# Altium footprint library Diode_SMD.PcbLib: 100 footprints (part 7 of 7)
Each footprint in its own frame and in the unit in brackets; x right, y up, seen from the top. Pads: shape width x height; smd on the part's side, far side on the other; paste and mask are expansions set on the pad; w line width, h text height; cw(c..) or ccw(c..) is an arc to the next point about the centre after c.
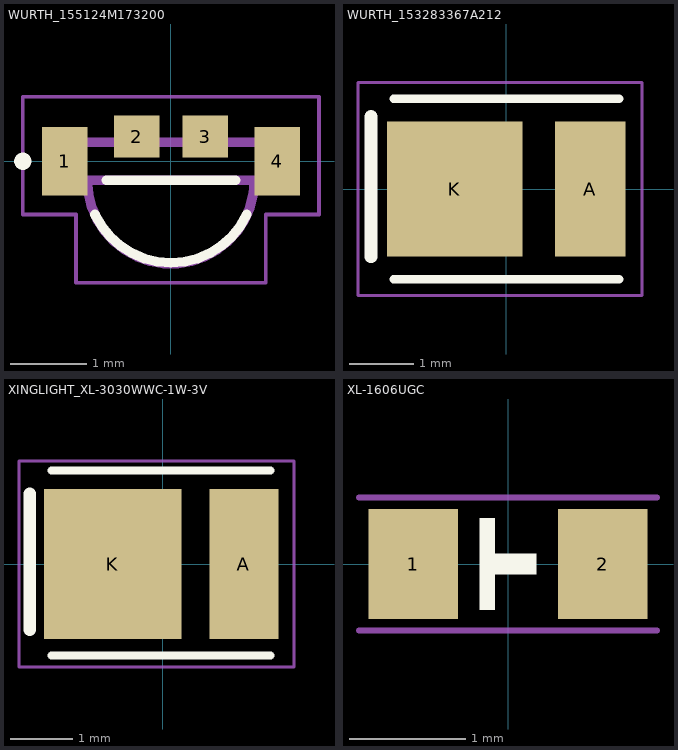
[diagram p6: the footprints below, top view; thin cyan lines are the x and y axes]

## WURTH_155124M173200 [mm] "LED RGB CLEAR 1204 SMD R/A"
pads (4):
  rect 0.6x0.9 smd: 1(-1.4,0) 4(1.4,0)
  rect 0.6x0.55 smd: 2(-0.45,0.325) 3(0.45,0.325)
Top Overlay:
  circle w0.127: c-1.95,0 r0.05
  lines w0.127: -1,-0.7 ccw(c0,-0.234) 1,-0.7 ; -0.85,-0.25 0.85,-0.25
Mechanical 13:
  lines w0.127: -1.1,-0.25 ccw(c0,-0.25) 1.1,-0.25 ; -1.1,-0.25 1.1,-0.25 ; -1.1,-0.25 -1.6,-0.25 -1.6,0.25 1.6,0.25 1.6,-0.25 1.1,-0.25
Mechanical 15:
  lines w0.05: -1.95,-0.7 -1.25,-0.7 -1.25,-1.6 1.25,-1.6 1.25,-0.7 1.95,-0.7 1.95,0.85 -1.95,0.85 -1.95,-0.7
3D body "155124M173200--3DModel-STEP-56544.STEP": height 1.1, standoff 0, extent -1.6,-1.25 1.6,0.25

## WURTH_153283367A212 [mm] "1411 (3528 métrico), 2 Pads"
pads (2):
  rect 1.1x2.1 smd: A(1.3,0)
  rect 2.1x2.1 smd: K(-0.8,0)
Top Overlay:
  lines w0.127: -1.75,-1.4 1.75,-1.4 ; -1.75,1.4 1.75,1.4
  lines w0.2: -2.1,-1.05 -2.1,1.125
Mechanical 15:
  lines w0.05: -2.3,-1.65 -2.3,1.65 2.1,1.65 2.1,-1.65 -2.3,-1.65
3D body "Download_STP_WL-SUTW_153283367A212 (rev1).stp": height 0.7, standoff 0, extent -1.75,-1.4 1.75,1.4

## XINGLIGHT_XL-3030WWC-1W-3V [mm] "1411 (3528 métrico), 2 Pads"
pads (2):
  rect 1.1x2.4 smd: A(1.3,0)
  rect 2.2x2.4 smd: K(-0.8,0)
Top Overlay:
  lines w0.127: -1.779,-1.465 1.721,-1.465 ; -1.779,1.494 1.721,1.494
  lines w0.2: -2.125,-1.05 -2.125,1.125
Mechanical 15:
  lines w0.05: -2.3,-1.65 2.1,-1.65 2.1,1.65 -2.3,1.65 -2.3,-1.65
3D body "LED-SMD_L3.0-W3.0_WHITE.step": height 0.68, standoff 0.01, extent -1.605,-1.477 1.595,1.523

## XL-1606UGC [mm] "LED EMERALD GREEN WATER CLEAR SMD"
pads (2):
  rect 0.77x0.95 smd: 1(-0.815,0) 2(0.815,0)
Top Overlay:
  region: -0.241,0.394 -0.114,0.394 -0.114,0.089 0.241,0.089 0.241,-0.089 -0.114,-0.089 -0.114,-0.394 -0.241,-0.394
Mechanical 14:
  lines w0.051: -1.283,-0.572 1.283,-0.572 ; -1.283,0.572 1.283,0.572
3D body "User Library-led_0603LED0603 green.STEP": height 0.78, standoff -0.02, extent -0.81,-0.125 0.81,0.475